# Altium schematic symbol library IRM-15-24.SchLib: 1 symbol
Pins are listed as number, name and electrical type; pins without a type are passive.

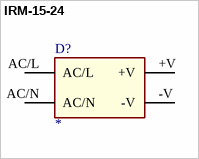
[diagram p0: symbol IRM-15-24]

## IRM-15-24
designator D?
Enclosed AC DC Converters 1 Uitgang 24V - - - 630mA 85 ~ 305 VAC, 120 ~ 430 VDC Input; MP: IRM-15-24; MF: MEAN WELL; Price: None; Package: None; Check_prices: https://www.snapeda.com/parts/IRM-15-24/MEAN+WELL+USA+Inc./view-part/?ref=eda; Value: *; Availability: In Stock; Purchase-URL: https://pricing.snapeda.com/search/part/IRM-15-24/?ref=eda; SnapEDA_Link: https://www.snapeda.com/parts/IRM-15-24/MEAN+WELL+USA+Inc./view-part/?ref=snap
footprint CONV_IRM-15-24
pins: +V, -V, AC/L, AC/N